# EAGLE library part LTC1174 (library xess)
Linear Tech High Efficiency Step-Down and Inverting DC/DC Converter
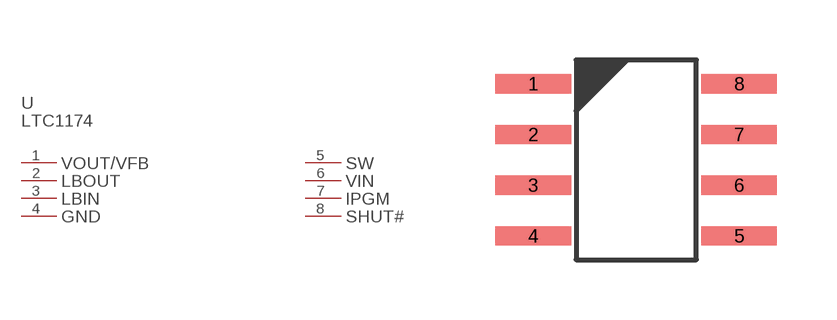
[diagram p118: symbol with the pads of LTC1174; footprint LTC1174]

Designator prefix U; gates PART_VALUE=PART_VALUE-LTC1174 VOUT/VFB=PL-LTC1174 LBOUT=PL-LTC1174 LBIN=PL-LTC1174 GND=PL-LTC1174 SW=PL-LTC1174 VIN=PL-LTC1174 IPGM=PL-LTC1174 SHUT#=PL-LTC1174

## LTC1174  [LTC1174]
1  VOUT/VFB:P$1
2  LBOUT:P$1
3  LBIN:P$1
4  GND:P$1
5  SW:P$1
6  VIN:P$1
7  IPGM:P$1
8  SHUT#:P$1

## Footprint LTC1174 (pad centres in mm)
smd 1.89 x 0.483: 1 -0.11,0; 2 -0.11,-1.27; 3 -0.11,-2.54; 4 -0.11,-3.81; 5 5.037,-3.81; 6 5.037,-2.54; 7 5.037,-1.27; 8 5.037,0